# Altium integrated library FPGA Generic.IntLib: 1651 symbols (part 11 of 20)
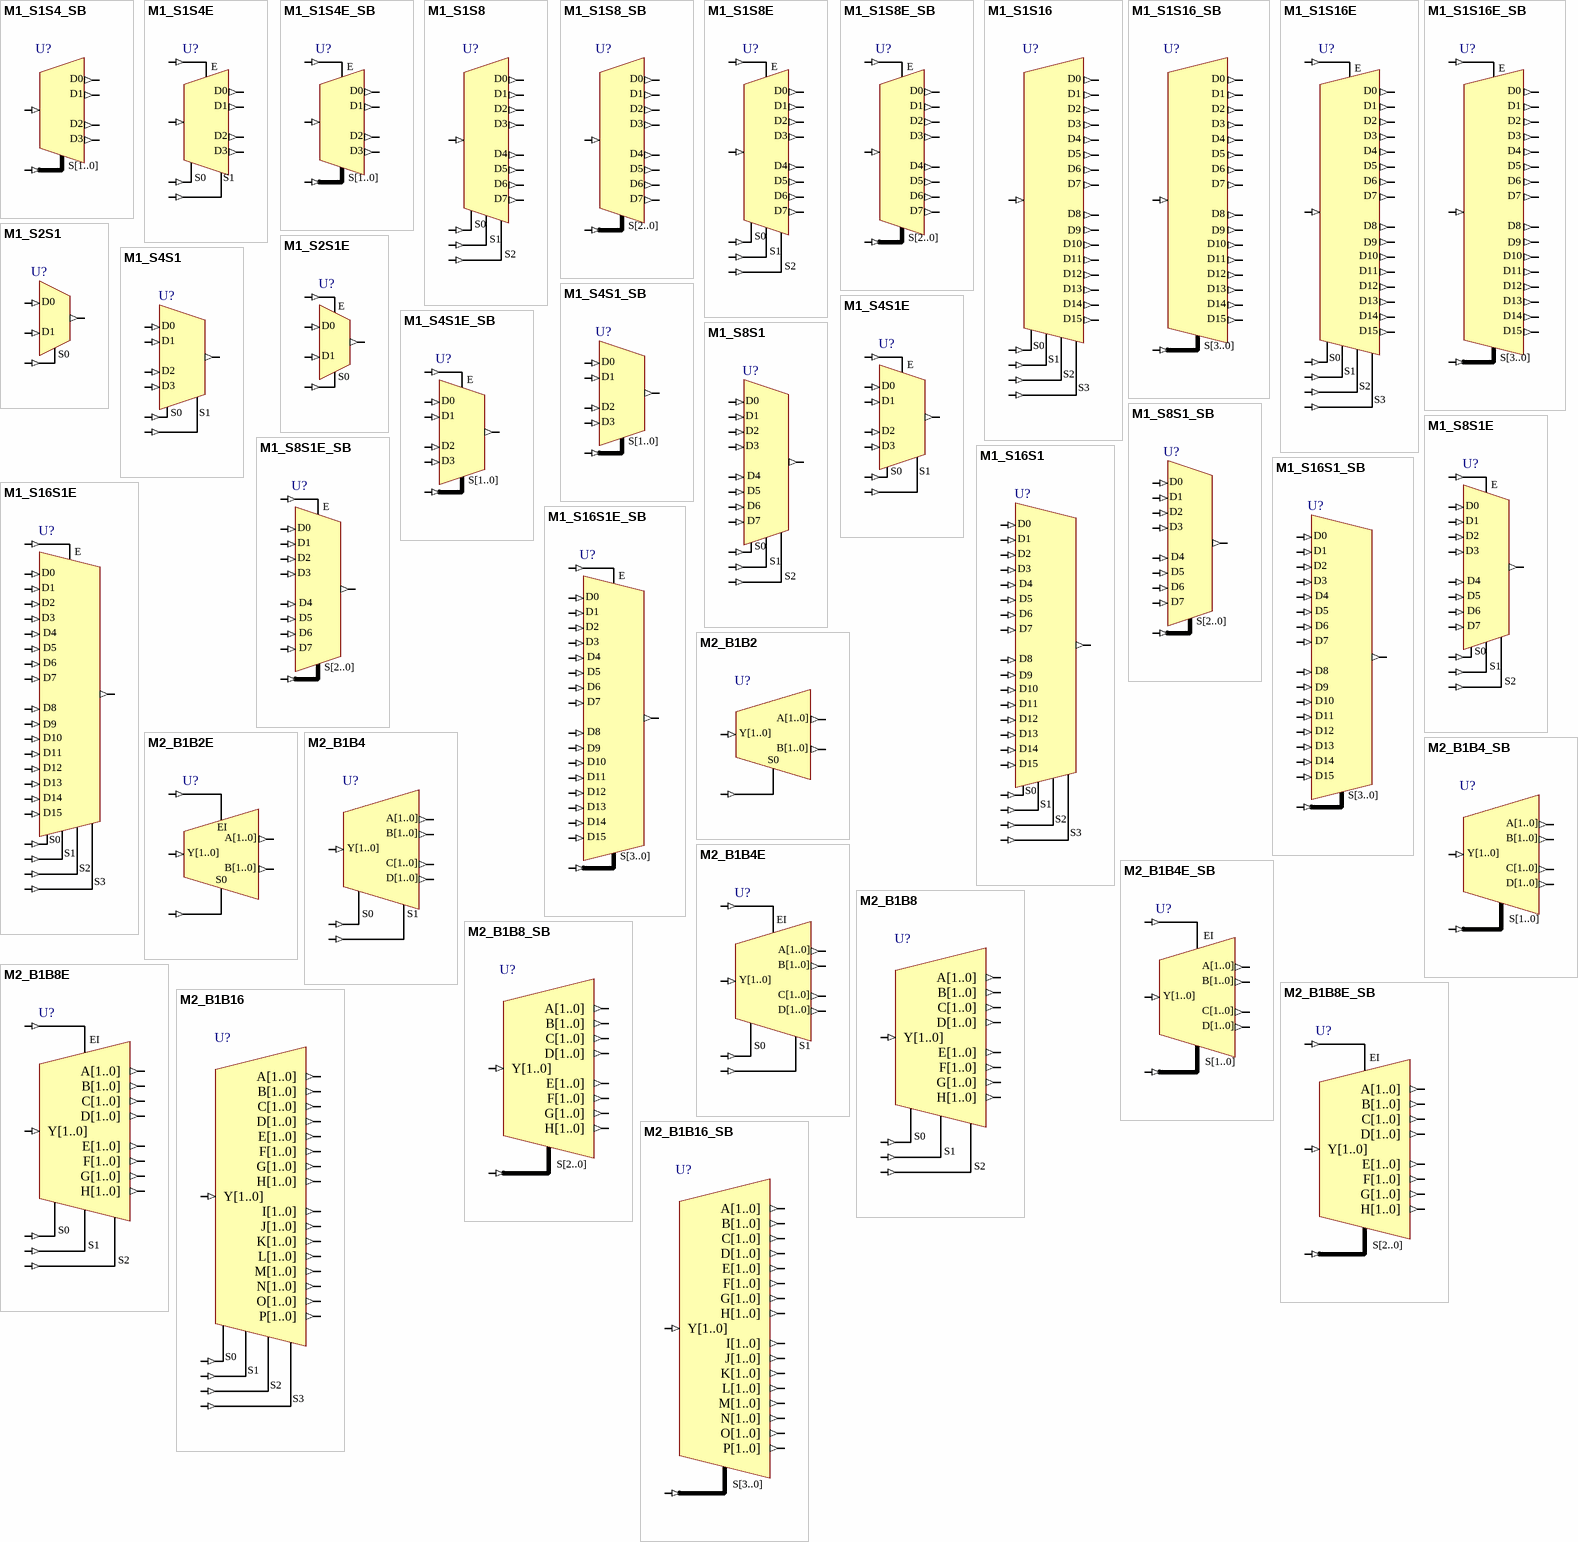
[diagram p53: symbols M1_S1S4_SB to M2_B1B16_SB]

## M1_S16S1_SB
designator U?
16x1-Single Wire to 1x1-Single Wire Multiplexer With Bus Version Select; SubClass: SnS1; BusBusSelect: True; PortSize: 1; PortStyle: Single Pin Version; ArchiveName: GENERIC; VHDLIB_SIM: GENERIC_LIB; Published: 29-Jan-2004; Publisher: Altium Limited; LastRevisionNo: 1.00.00; HelpURL: CR0118 FPGA Generic Library Guide.pdf#page=388; ComponentLink1URL: CR0137 FPGA Multiplexer Resource Usage.pdf#page=61; ComponentLink1Description: Core &Resource Usage; FunctionalClass: Multiplexer
pins: D0 (in), D1 (in), D2 (in), D3 (in), D4 (in), D5 (in), D6 (in), D7 (in), D8 (in), D9 (in), D10 (in), D11 (in), D12 (in), D13 (in), D14 (in), D15 (in), O (out), S[3..0] (in)

## M1_S16S1E
designator U?
16x1-Single Wire to 1x1-Single Wire Multiplexer With Enable; XilinxEquivalent: M16_1E; SubClass: SnS1; Enable: High; PortSize: 1; PortStyle: Single Pin Version; ArchiveName: GENERIC; VHDLIB_SIM: GENERIC_LIB; Published: 29-Jan-2004; Publisher: Altium Limited; LastRevisionNo: 1.00.00; HelpURL: CR0118 FPGA Generic Library Guide.pdf#page=393; ComponentLink1URL: CR0137 FPGA Multiplexer Resource Usage.pdf#page=62; ComponentLink1Description: Core &Resource Usage; FunctionalClass: Multiplexer
pins: D0 (in), D1 (in), D2 (in), D3 (in), D4 (in), D5 (in), D6 (in), D7 (in), D8 (in), D9 (in), D10 (in), D11 (in), D12 (in), D13 (in), D14 (in), D15 (in), E (in), O (out), S0 (in), S1 (in), S2 (in), S3 (in)

## M1_S16S1E_SB
designator U?
16x1-Single Wire to 1x1-Single Wire Multiplexer With Enable and Bus Version Select; SubClass: S1Bn; Enable: High; BusBusSelect: True; PortSize: 1; ArchiveName: GENERIC; VHDLIB_SIM: GENERIC_LIB; Published: 29-Jan-2004; Publisher: Altium Limited; LastRevisionNo: 1.00.00; HelpURL: CR0118 FPGA Generic Library Guide.pdf#page=393; ComponentLink1URL: CR0137 FPGA Multiplexer Resource Usage.pdf#page=63; ComponentLink1Description: Core &Resource Usage; FunctionalClass: Multiplexer; PortStyle: Bus Version
pins: D0 (in), D1 (in), D2 (in), D3 (in), D4 (in), D5 (in), D6 (in), D7 (in), D8 (in), D9 (in), D10 (in), D11 (in), D12 (in), D13 (in), D14 (in), D15 (in), E (in), O (out), S[3..0] (in)

## M2_B1B2
designator U?
1x2-Bit Bus to 2x2-Bit Bus Multiplexer (Demultiplex); SubClass: B1Bn; PortSize: 2; PortStyle: Bus Version; ArchiveName: GENERIC; VHDLIB_SIM: GENERIC_LIB; Published: 29-Jan-2004; Publisher: Altium Limited; LastRevisionNo: 1.00.00; HelpURL: CR0118 FPGA Generic Library Guide.pdf#page=328; ComponentLink1URL: CR0137 FPGA Multiplexer Resource Usage.pdf#page=64; ComponentLink1Description: Core &Resource Usage; FunctionalClass: Multiplexer
pins: A[1..0] (out), B[1..0] (out), S0 (in), Y[1..0] (in)

## M2_B1B2E
designator U?
1x2-Bit Bus to 2x2-Bit Bus Multiplexer (Demultiplex) With Enable; SubClass: B1Bn; Enable: High; PortSize: 2; PortStyle: Bus Version; ArchiveName: GENERIC; VHDLIB_SIM: GENERIC_LIB; Published: 29-Jan-2004; Publisher: Altium Limited; LastRevisionNo: 1.00.00; HelpURL: CR0118 FPGA Generic Library Guide.pdf#page=331; ComponentLink1URL: CR0137 FPGA Multiplexer Resource Usage.pdf#page=65; ComponentLink1Description: Core &Resource Usage; FunctionalClass: Multiplexer
pins: A[1..0] (out), B[1..0] (out), EI (in), S0 (in), Y[1..0] (in)

## M2_B1B4
designator U?
1x2-Bit Bus to 4x2-Bit Bus Multiplexer (Demultiplex); SubClass: B1Bn; PortSize: 2; PortStyle: Bus Version; ArchiveName: GENERIC; VHDLIB_SIM: GENERIC_LIB; Published: 29-Jan-2004; Publisher: Altium Limited; LastRevisionNo: 1.00.00; HelpURL: CR0118 FPGA Generic Library Guide.pdf#page=335; ComponentLink1URL: CR0137 FPGA Multiplexer Resource Usage.pdf#page=66; ComponentLink1Description: Core &Resource Usage; FunctionalClass: Multiplexer
pins: A[1..0] (out), B[1..0] (out), C[1..0] (out), D[1..0] (out), S0 (in), S1 (in), Y[1..0] (in)

## M2_B1B4_SB
designator U?
1x2-Bit Bus to 4x2-Bit Bus Multiplexer (Demultiplex) With Bus Version Select; SubClass: B1Bn; BusBusSelect: True; PortSize: 2; ArchiveName: GENERIC; VHDLIB_SIM: GENERIC_LIB; Published: 31-May-2004; Publisher: Altium Limited; LastRevisionNo: 1.00.00; HelpURL: CR0118 FPGA Generic Library Guide.pdf#page=335; ComponentLink1URL: CR0137 FPGA Multiplexer Resource Usage.pdf#page=67; ComponentLink1Description: Core &Resource Usage; FunctionalClass: Multiplexer; PortStyle: Bus Version
pins: A[1..0] (out), B[1..0] (out), C[1..0] (out), D[1..0] (out), S[1..0] (in), Y[1..0] (in)

## M2_B1B4E
designator U?
1x2-Bit Bus to 4x2-Bit Bus Multiplexer (Demultiplex) With Enable; SubClass: B1Bn; Enable: High; PortSize: 2; PortStyle: Bus Version; ArchiveName: GENERIC; VHDLIB_SIM: GENERIC_LIB; Published: 29-Jan-2004; Publisher: Altium Limited; LastRevisionNo: 1.00.00; HelpURL: CR0118 FPGA Generic Library Guide.pdf#page=339; ComponentLink1URL: CR0137 FPGA Multiplexer Resource Usage.pdf#page=68; ComponentLink1Description: Core &Resource Usage; FunctionalClass: Multiplexer
pins: A[1..0] (out), B[1..0] (out), C[1..0] (out), D[1..0] (out), EI (in), S0 (in), S1 (in), Y[1..0] (in)

## M2_B1B4E_SB
designator U?
1x2-Bit Bus to 4x2-Bit Bus Multiplexer (Demultiplex) With Enable With Bus Version Select; SubClass: B1Bn; Enable: High; BusBusSelect: True; PortSize: 2; ArchiveName: GENERIC; VHDLIB_SIM: GENERIC_LIB; Published: 31-May-2004; Publisher: Altium Limited; LastRevisionNo: 1.00.00; HelpURL: CR0118 FPGA Generic Library Guide.pdf#page=339; ComponentLink1URL: CR0137 FPGA Multiplexer Resource Usage.pdf#page=69; ComponentLink1Description: Core &Resource Usage; FunctionalClass: Multiplexer; PortStyle: Bus Version
pins: A[1..0] (out), B[1..0] (out), C[1..0] (out), D[1..0] (out), EI (in), S[1..0] (in), Y[1..0] (in)

## M2_B1B8
designator U?
1x2-Bit Bus to 8x2-Bit Bus Multiplexer (Demultiplex); SubClass: B1Bn; PortSize: 2; PortStyle: Bus Version; ArchiveName: GENERIC; VHDLIB_SIM: GENERIC_LIB; Published: 29-Jan-2004; Publisher: Altium Limited; LastRevisionNo: 1.00.00; HelpURL: CR0118 FPGA Generic Library Guide.pdf#page=345; ComponentLink1URL: CR0137 FPGA Multiplexer Resource Usage.pdf#page=70; ComponentLink1Description: Core &Resource Usage; FunctionalClass: Multiplexer
pins: A[1..0] (out), B[1..0] (out), C[1..0] (out), D[1..0] (out), E[1..0] (out), F[1..0] (out), G[1..0] (out), H[1..0] (out), S0 (in), S1 (in), S2 (in), Y[1..0] (in)

## M2_B1B8_SB
designator U?
1x2-Bit Bus to 8x2-Bit Bus Multiplexer (Demultiplex) With Bus Version Select; SubClass: B1Bn; BusBusSelect: True; PortSize: 2; ArchiveName: GENERIC; VHDLIB_SIM: GENERIC_LIB; Published: 31-May-2004; Publisher: Altium Limited; LastRevisionNo: 1.00.00; HelpURL: CR0118 FPGA Generic Library Guide.pdf#page=345; ComponentLink1URL: CR0137 FPGA Multiplexer Resource Usage.pdf#page=71; ComponentLink1Description: Core &Resource Usage; FunctionalClass: Multiplexer; PortStyle: Bus Version
pins: A[1..0] (out), B[1..0] (out), C[1..0] (out), D[1..0] (out), E[1..0] (out), F[1..0] (out), G[1..0] (out), H[1..0] (out), S[2..0] (in), Y[1..0] (in)

## M2_B1B8E
designator U?
1x2-Bit Bus to 8x2-Bit Bus Multiplexer (Demultiplex) With Enable; SubClass: B1Bn; Enable: High; PortSize: 2; PortStyle: Bus Version; ArchiveName: GENERIC; VHDLIB_SIM: GENERIC_LIB; Published: 29-Jan-2004; Publisher: Altium Limited; LastRevisionNo: 1.00.00; HelpURL: CR0118 FPGA Generic Library Guide.pdf#page=350; ComponentLink1URL: CR0137 FPGA Multiplexer Resource Usage.pdf#page=72; ComponentLink1Description: Core &Resource Usage; FunctionalClass: Multiplexer
pins: A[1..0] (out), B[1..0] (out), C[1..0] (out), D[1..0] (out), E[1..0] (out), EI (in), F[1..0] (out), G[1..0] (out), H[1..0] (out), S0 (in), S1 (in), S2 (in), Y[1..0] (in)

## M2_B1B8E_SB
designator U?
1x2-Bit Bus to 8x2-Bit Bus Multiplexer (Demultiplex) With Enable With Bus Version Select; SubClass: B1Bn; Enable: High; BusBusSelect: True; PortSize: 2; ArchiveName: GENERIC; VHDLIB_SIM: GENERIC_LIB; Published: 31-May-2004; Publisher: Altium Limited; LastRevisionNo: 1.00.00; HelpURL: CR0118 FPGA Generic Library Guide.pdf#page=350; ComponentLink1URL: CR0137 FPGA Multiplexer Resource Usage.pdf#page=73; ComponentLink1Description: Core &Resource Usage; FunctionalClass: Multiplexer; PortStyle: Bus Version
pins: A[1..0] (out), B[1..0] (out), C[1..0] (out), D[1..0] (out), E[1..0] (out), EI (in), F[1..0] (out), G[1..0] (out), H[1..0] (out), S[2..0] (in), Y[1..0] (in)

## M2_B1B16
designator U?
1x2-Bit Bus to 16x2-Bit Bus Multiplexer (Demultiplex); SubClass: B1Bn; PortSize: 2; PortStyle: Bus Version; ArchiveName: GENERIC; VHDLIB_SIM: GENERIC_LIB; Published: 29-Jan-2004; Publisher: Altium Limited; LastRevisionNo: 1.00.00; HelpURL: CR0118 FPGA Generic Library Guide.pdf#page=355; ComponentLink1URL: CR0137 FPGA Multiplexer Resource Usage.pdf#page=74; ComponentLink1Description: Core &Resource Usage; FunctionalClass: Multiplexer
pins: A[1..0] (out), B[1..0] (out), C[1..0] (out), D[1..0] (out), E[1..0] (out), F[1..0] (out), G[1..0] (out), H[1..0] (out), I[1..0] (out), J[1..0] (out), K[1..0] (out), L[1..0] (out), M[1..0] (out), N[1..0] (out), O[1..0] (out), P[1..0] (out), S0 (in), S1 (in), S2 (in), S3 (in), Y[1..0] (in)

## M2_B1B16_SB
designator U?
1x2-Bit Bus to 16x2-Bit Bus Multiplexer (Demultiplex) With Bus Version Select; SubClass: B1Bn; BusBusSelect: True; PortSize: 2; ArchiveName: GENERIC; VHDLIB_SIM: GENERIC_LIB; Published: 29-Jan-2004; Publisher: Altium Limited; LastRevisionNo: 1.00.00; HelpURL: CR0118 FPGA Generic Library Guide.pdf#page=355; ComponentLink1URL: CR0137 FPGA Multiplexer Resource Usage.pdf#page=75; ComponentLink1Description: Core &Resource Usage; FunctionalClass: Multiplexer; PortStyle: Bus Version
pins: A[1..0] (out), B[1..0] (out), C[1..0] (out), D[1..0] (out), E[1..0] (out), F[1..0] (out), G[1..0] (out), H[1..0] (out), I[1..0] (out), J[1..0] (out), K[1..0] (out), L[1..0] (out), M[1..0] (out), N[1..0] (out), O[1..0] (out), P[1..0] (out), S[3..0] (in), Y[1..0] (in)

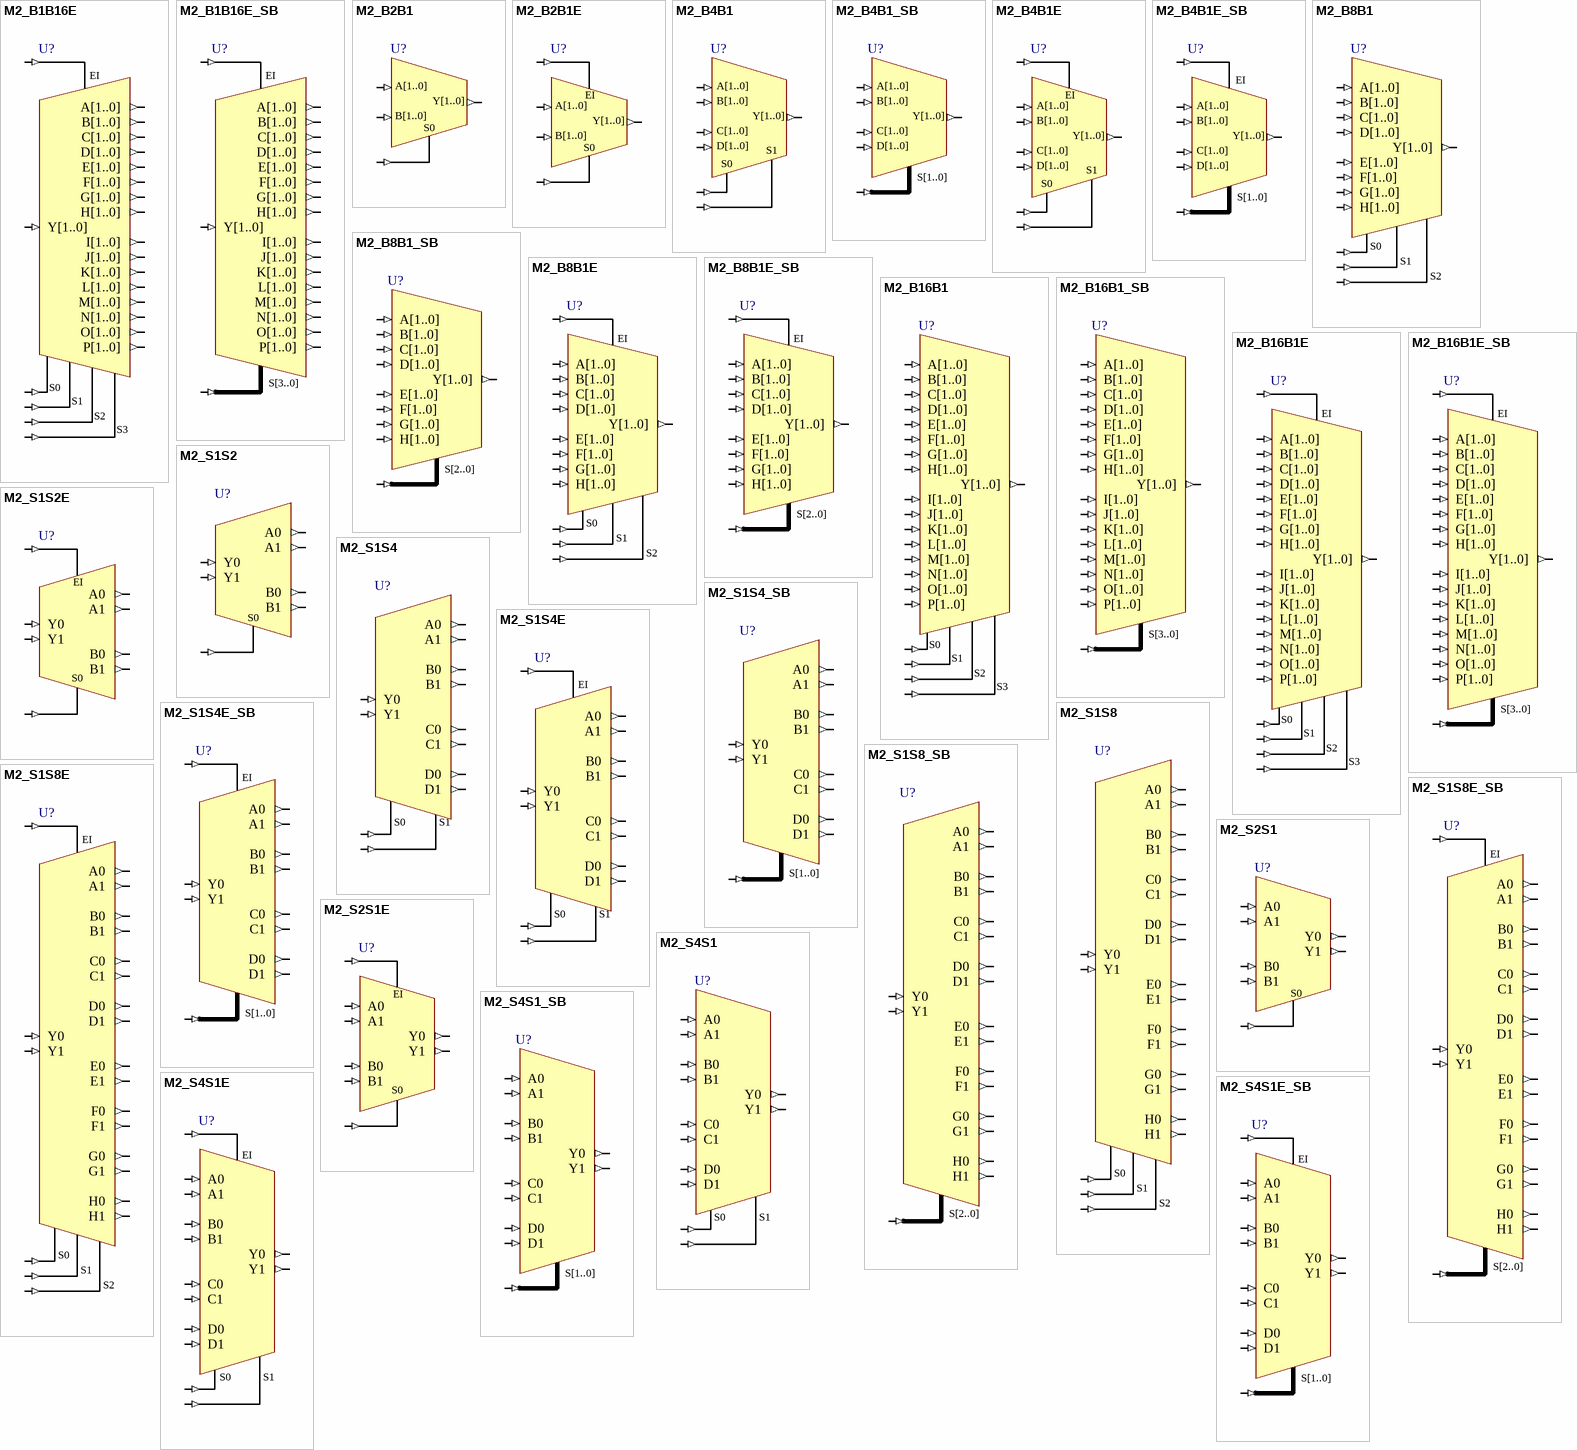
[diagram p22: symbols M2_B1B16E to M2_S4S1E_SB]

## M2_B1B16E
designator U?
1x2-Bit Bus to 16x2-Bit Bus Multiplexer (Demultiplex) With Enable; SubClass: B1Bn; Enable: High; PortSize: 2; PortStyle: Bus Version; ArchiveName: GENERIC; VHDLIB_SIM: GENERIC_LIB; Published: 29-Jan-2004; Publisher: Altium Limited; LastRevisionNo: 1.00.00; HelpURL: CR0118 FPGA Generic Library Guide.pdf#page=360; ComponentLink1URL: CR0137 FPGA Multiplexer Resource Usage.pdf#page=76; ComponentLink1Description: Core &Resource Usage; FunctionalClass: Multiplexer
pins: A[1..0] (out), B[1..0] (out), C[1..0] (out), D[1..0] (out), E[1..0] (out), EI (in), F[1..0] (out), G[1..0] (out), H[1..0] (out), I[1..0] (out), J[1..0] (out), K[1..0] (out), L[1..0] (out), M[1..0] (out), N[1..0] (out), O[1..0] (out), P[1..0] (out), S0 (in), S1 (in), S2 (in), S3 (in), Y[1..0] (in)

## M2_B1B16E_SB
designator U?
1x2-Bit Bus to 16x2-Bit Bus Multiplexer (Demultiplex) With Enable and Bus Version Select; SubClass: B1Bn; Enable: High; BusBusSelect: True; PortSize: 2; ArchiveName: GENERIC; VHDLIB_SIM: GENERIC_LIB; Published: 29-Jan-2004; Publisher: Altium Limited; LastRevisionNo: 1.00.00; HelpURL: CR0118 FPGA Generic Library Guide.pdf#page=360; ComponentLink1URL: CR0137 FPGA Multiplexer Resource Usage.pdf#page=77; ComponentLink1Description: Core &Resource Usage; FunctionalClass: Multiplexer; PortStyle: Bus Version
pins: A[1..0] (out), B[1..0] (out), C[1..0] (out), D[1..0] (out), E[1..0] (out), EI (in), F[1..0] (out), G[1..0] (out), H[1..0] (out), I[1..0] (out), J[1..0] (out), K[1..0] (out), L[1..0] (out), M[1..0] (out), N[1..0] (out), O[1..0] (out), P[1..0] (out), S[3..0] (in), Y[1..0] (in)

## M2_B2B1
designator U?
2x2-Bit Bus to 1x2-Bit Bus Multiplexer; SubClass: BnB1; PortSize: 2; ArchiveName: GENERIC; VHDLIB_SIM: GENERIC_LIB; Published: 29-Jan-2004; Publisher: Altium Limited; LastRevisionNo: 1.00.00; HelpURL: CR0118 FPGA Generic Library Guide.pdf#page=364; ComponentLink1URL: CR0137 FPGA Multiplexer Resource Usage.pdf#page=78; ComponentLink1Description: Core &Resource Usage; FunctionalClass: Multiplexer
pins: A[1..0] (in), B[1..0] (in), S0 (in), Y[1..0] (out)

## M2_B2B1E
designator U?
2x2-Bit Bus to 1x2-Bit Bus Multiplexer With Enable; SubClass: BnB1; Enable: High; PortSize: 2; ArchiveName: GENERIC; VHDLIB_SIM: GENERIC_LIB; Published: 29-Jan-2004; Publisher: Altium Limited; LastRevisionNo: 1.00.00; HelpURL: CR0118 FPGA Generic Library Guide.pdf#page=366; ComponentLink1URL: CR0137 FPGA Multiplexer Resource Usage.pdf#page=79; ComponentLink1Description: Core &Resource Usage; FunctionalClass: Multiplexer
pins: A[1..0] (in), B[1..0] (in), EI (in), S0 (in), Y[1..0] (out)

## M2_B4B1
designator U?
4x2-Bit Bus to 1x2-Bit Bus Multiplexer; SubClass: BnB1; PortSize: 2; ArchiveName: GENERIC; VHDLIB_SIM: GENERIC_LIB; Published: 29-Jan-2004; Publisher: Altium Limited; LastRevisionNo: 1.00.00; HelpURL: CR0118 FPGA Generic Library Guide.pdf#page=370; ComponentLink1URL: CR0137 FPGA Multiplexer Resource Usage.pdf#page=80; ComponentLink1Description: Core &Resource Usage; FunctionalClass: Multiplexer
pins: A[1..0] (in), B[1..0] (in), C[1..0] (in), D[1..0] (in), S0 (in), S1 (in), Y[1..0] (out)

## M2_B4B1_SB
designator U?
4x2-Bit Bus to 1x2-Bit Bus Multiplexer With Bus Version Select; SubClass: BnB1; BusBusSelect: True; PortSize: 2; ArchiveName: GENERIC; VHDLIB_SIM: GENERIC_LIB; Published: 31-May-2004; Publisher: Altium Limited; LastRevisionNo: 1.00.00; HelpURL: CR0118 FPGA Generic Library Guide.pdf#page=370; ComponentLink1URL: CR0137 FPGA Multiplexer Resource Usage.pdf#page=81; ComponentLink1Description: Core &Resource Usage; FunctionalClass: Multiplexer
pins: A[1..0] (in), B[1..0] (in), C[1..0] (in), D[1..0] (in), S[1..0] (in), Y[1..0] (out)

## M2_B4B1E
designator U?
4x2-Bit Bus to 1x2-Bit Bus Multiplexer With Enable; SubClass: BnB1; Enable: High; PortSize: 2; ArchiveName: GENERIC; VHDLIB_SIM: GENERIC_LIB; Published: 29-Jan-2004; Publisher: Altium Limited; LastRevisionNo: 1.00.00; HelpURL: CR0118 FPGA Generic Library Guide.pdf#page=374; ComponentLink1URL: CR0137 FPGA Multiplexer Resource Usage.pdf#page=82; ComponentLink1Description: Core &Resource Usage; FunctionalClass: Multiplexer
pins: A[1..0] (in), B[1..0] (in), C[1..0] (in), D[1..0] (in), EI (in), S0 (in), S1 (in), Y[1..0] (out)

## M2_B4B1E_SB
designator U?
4x2-Bit Bus to 1x2-Bit Bus Multiplexer With Enable With Bus Version Select; SubClass: BnB1; Enable: High; BusBusSelect: True; PortSize: 2; ArchiveName: GENERIC; VHDLIB_SIM: GENERIC_LIB; Published: 31-May-2004; Publisher: Altium Limited; LastRevisionNo: 1.00.00; HelpURL: CR0118 FPGA Generic Library Guide.pdf#page=374; ComponentLink1URL: CR0137 FPGA Multiplexer Resource Usage.pdf#page=83; ComponentLink1Description: Core &Resource Usage; FunctionalClass: Multiplexer
pins: A[1..0] (in), B[1..0] (in), C[1..0] (in), D[1..0] (in), EI (in), S[1..0] (in), Y[1..0] (out)

## M2_B8B1
designator U?
8x2-Bit Bus to 1x2-Bit Bus Multiplexer; SubClass: BnB1; PortSize: 2; ArchiveName: GENERIC; VHDLIB_SIM: GENERIC_LIB; Published: 29-Jan-2004; Publisher: Altium Limited; LastRevisionNo: 1.00.00; HelpURL: CR0118 FPGA Generic Library Guide.pdf#page=379; ComponentLink1URL: CR0137 FPGA Multiplexer Resource Usage.pdf#page=84; ComponentLink1Description: Core &Resource Usage; FunctionalClass: Multiplexer
pins: A[1..0] (in), B[1..0] (in), C[1..0] (in), D[1..0] (in), E[1..0] (in), F[1..0] (in), G[1..0] (in), H[1..0] (in), S0 (in), S1 (in), S2 (in), Y[1..0] (out)

## M2_B8B1_SB
designator U?
8x2-Bit Bus to 1x2-Bit Bus Multiplexer With Bus Version Select; SubClass: BnB1; BusBusSelect: True; PortSize: 2; ArchiveName: GENERIC; VHDLIB_SIM: GENERIC_LIB; Published: 31-May-2004; Publisher: Altium Limited; LastRevisionNo: 1.00.00; HelpURL: CR0118 FPGA Generic Library Guide.pdf#page=379; ComponentLink1URL: CR0137 FPGA Multiplexer Resource Usage.pdf#page=85; ComponentLink1Description: Core &Resource Usage; FunctionalClass: Multiplexer
pins: A[1..0] (in), B[1..0] (in), C[1..0] (in), D[1..0] (in), E[1..0] (in), F[1..0] (in), G[1..0] (in), H[1..0] (in), S[2..0] (in), Y[1..0] (out)

## M2_B8B1E
designator U?
8x2-Bit Bus to 1x2-Bit Bus Multiplexer With Enable; SubClass: BnB1; Enable: High; PortSize: 2; ArchiveName: GENERIC; VHDLIB_SIM: GENERIC_LIB; Published: 29-Jan-2004; Publisher: Altium Limited; LastRevisionNo: 1.00.00; HelpURL: CR0118 FPGA Generic Library Guide.pdf#page=383; ComponentLink1URL: CR0137 FPGA Multiplexer Resource Usage.pdf#page=86; ComponentLink1Description: Core &Resource Usage; FunctionalClass: Multiplexer
pins: A[1..0] (in), B[1..0] (in), C[1..0] (in), D[1..0] (in), E[1..0] (in), EI (in), F[1..0] (in), G[1..0] (in), H[1..0] (in), S0 (in), S1 (in), S2 (in), Y[1..0] (out)

## M2_B8B1E_SB
designator U?
8x2-Bit Bus to 1x2-Bit Bus Multiplexer With Enable With Bus Version Select; SubClass: BnB1; Enable: High; BusBusSelect: True; PortSize: 2; ArchiveName: GENERIC; VHDLIB_SIM: GENERIC_LIB; Published: 31-May-2004; Publisher: Altium Limited; LastRevisionNo: 1.00.00; HelpURL: CR0118 FPGA Generic Library Guide.pdf#page=383; ComponentLink1URL: CR0137 FPGA Multiplexer Resource Usage.pdf#page=87; ComponentLink1Description: Core &Resource Usage; FunctionalClass: Multiplexer
pins: A[1..0] (in), B[1..0] (in), C[1..0] (in), D[1..0] (in), E[1..0] (in), EI (in), F[1..0] (in), G[1..0] (in), H[1..0] (in), S[2..0] (in), Y[1..0] (out)

## M2_B16B1
designator U?
16x2-Bit Bus to 1x2-Bit Bus Multiplexer; SubClass: BnB1; PortSize: 2; ArchiveName: GENERIC; VHDLIB_SIM: GENERIC_LIB; Published: 29-Jan-2004; Publisher: Altium Limited; LastRevisionNo: 1.00.00; HelpURL: CR0118 FPGA Generic Library Guide.pdf#page=388; ComponentLink1URL: CR0137 FPGA Multiplexer Resource Usage.pdf#page=88; ComponentLink1Description: Core &Resource Usage; FunctionalClass: Multiplexer
pins: A[1..0] (in), B[1..0] (in), C[1..0] (in), D[1..0] (in), E[1..0] (in), F[1..0] (in), G[1..0] (in), H[1..0] (in), I[1..0] (in), J[1..0] (in), K[1..0] (in), L[1..0] (in), M[1..0] (in), N[1..0] (in), O[1..0] (in), P[1..0] (in), S0 (in), S1 (in), S2 (in), S3 (in), Y[1..0] (out)

## M2_B16B1_SB
designator U?
16x2-Bit Bus to 1x2-Bit Bus Multiplexer With Bus Version Select; SubClass: BnB1; BusBusSelect: True; PortSize: 2; ArchiveName: GENERIC; VHDLIB_SIM: GENERIC_LIB; Published: 29-Jan-2004; Publisher: Altium Limited; LastRevisionNo: 1.00.00; HelpURL: CR0118 FPGA Generic Library Guide.pdf#page=388; ComponentLink1URL: CR0137 FPGA Multiplexer Resource Usage.pdf#page=89; ComponentLink1Description: Core &Resource Usage; FunctionalClass: Multiplexer
pins: A[1..0] (in), B[1..0] (in), C[1..0] (in), D[1..0] (in), E[1..0] (in), F[1..0] (in), G[1..0] (in), H[1..0] (in), I[1..0] (in), J[1..0] (in), K[1..0] (in), L[1..0] (in), M[1..0] (in), N[1..0] (in), O[1..0] (in), P[1..0] (in), S[3..0] (in), Y[1..0] (out)

## M2_B16B1E
designator U?
16x2-Bit Bus to 1x2-Bit Bus Multiplexer With Enable; SubClass: BnB1; Enable: High; PortSize: 2; ArchiveName: GENERIC; VHDLIB_SIM: GENERIC_LIB; Published: 29-Jan-2004; Publisher: Altium Limited; LastRevisionNo: 1.00.00; HelpURL: CR0118 FPGA Generic Library Guide.pdf#page=393; ComponentLink1URL: CR0137 FPGA Multiplexer Resource Usage.pdf#page=90; ComponentLink1Description: Core &Resource Usage; FunctionalClass: Multiplexer
pins: A[1..0] (in), B[1..0] (in), C[1..0] (in), D[1..0] (in), E[1..0] (in), EI (in), F[1..0] (in), G[1..0] (in), H[1..0] (in), I[1..0] (in), J[1..0] (in), K[1..0] (in), L[1..0] (in), M[1..0] (in), N[1..0] (in), O[1..0] (in), P[1..0] (in), S0 (in), S1 (in), S2 (in), S3 (in), Y[1..0] (out)

## M2_B16B1E_SB
designator U?
16x2-Bit Bus to 1x2-Bit Bus Multiplexer With Enable and Bus Version Select; SubClass: BnB1; Enable: High; BusBusSelect: True; PortSize: 2; ArchiveName: GENERIC; VHDLIB_SIM: GENERIC_LIB; Published: 29-Jan-2004; Publisher: Altium Limited; LastRevisionNo: 1.00.00; HelpURL: CR0118 FPGA Generic Library Guide.pdf#page=393; ComponentLink1URL: CR0137 FPGA Multiplexer Resource Usage.pdf#page=91; ComponentLink1Description: Core &Resource Usage; FunctionalClass: Multiplexer
pins: A[1..0] (in), B[1..0] (in), C[1..0] (in), D[1..0] (in), E[1..0] (in), EI (in), F[1..0] (in), G[1..0] (in), H[1..0] (in), I[1..0] (in), J[1..0] (in), K[1..0] (in), L[1..0] (in), M[1..0] (in), N[1..0] (in), O[1..0] (in), P[1..0] (in), S[3..0] (in), Y[1..0] (out)

## M2_S1S2
designator U?
1x2-Single Wire to 2x2-Single Wire Multiplexer (Demultiplex); SubClass: S1Sn; PortSize: 2; PortStyle: Single Pin Version; ArchiveName: GENERIC; VHDLIB_SIM: GENERIC_LIB; Published: 29-Jan-2004; Publisher: Altium Limited; LastRevisionNo: 1.00.00; HelpURL: CR0118 FPGA Generic Library Guide.pdf#page=328; ComponentLink1URL: CR0137 FPGA Multiplexer Resource Usage.pdf#page=92; ComponentLink1Description: Core &Resource Usage; FunctionalClass: Multiplexer
pins: A0 (out), A1 (out), B0 (out), B1 (out), S0 (in), Y0 (in), Y1 (in)

## M2_S1S2E
designator U?
1x2-Single Wire to 2x2-Single Wire Multiplexer (Demultiplex) With Enable; SubClass: S1Sn; Enable: High; PortSize: 2; PortStyle: Single Pin Version; ArchiveName: GENERIC; VHDLIB_SIM: GENERIC_LIB; Published: 29-Jan-2004; Publisher: Altium Limited; LastRevisionNo: 1.00.00; HelpURL: CR0118 FPGA Generic Library Guide.pdf#page=331; ComponentLink1URL: CR0137 FPGA Multiplexer Resource Usage.pdf#page=93; ComponentLink1Description: Core &Resource Usage; FunctionalClass: Multiplexer
pins: A0 (out), A1 (out), B0 (out), B1 (out), EI (in), S0 (in), Y0 (in), Y1 (in)

## M2_S1S4
designator U?
1x2-Single Wire to 4x2-Single Wire Multiplexer (Demultiplex); SubClass: S1Sn; PortSize: 2; PortStyle: Single Pin Version; ArchiveName: GENERIC; VHDLIB_SIM: GENERIC_LIB; Published: 29-Jan-2004; Publisher: Altium Limited; LastRevisionNo: 1.00.00; HelpURL: CR0118 FPGA Generic Library Guide.pdf#page=335; ComponentLink1URL: CR0137 FPGA Multiplexer Resource Usage.pdf#page=94; ComponentLink1Description: Core &Resource Usage; FunctionalClass: Multiplexer
pins: A0 (out), A1 (out), B0 (out), B1 (out), C0 (out), C1 (out), D0 (out), D1 (out), S0 (in), S1 (in), Y0 (in), Y1 (in)

## M2_S1S4_SB
designator U?
1x2-Single Wire to 4x2-Single Wire Multiplexer (Demultiplex) With Bus Version Select; SubClass: S1Sn; BusBusSelect: True; PortSize: 2; PortStyle: Single Pin Version; ArchiveName: GENERIC; VHDLIB_SIM: GENERIC_LIB; Published: 31-May-2004; Publisher: Altium Limited; LastRevisionNo: 1.00.00; HelpURL: CR0118 FPGA Generic Library Guide.pdf#page=335; ComponentLink1URL: CR0137 FPGA Multiplexer Resource Usage.pdf#page=95; ComponentLink1Description: Core &Resource Usage; FunctionalClass: Multiplexer
pins: A0 (out), A1 (out), B0 (out), B1 (out), C0 (out), C1 (out), D0 (out), D1 (out), S[1..0] (in), Y0 (in), Y1 (in)

## M2_S1S4E
designator U?
1x2-Single Wire to 4x2-Single Wire Multiplexer (Demultiplex) With Enable; SubClass: S1Sn; Enable: High; PortSize: 2; PortStyle: Single Pin Version; ArchiveName: GENERIC; VHDLIB_SIM: GENERIC_LIB; Published: 29-Jan-2004; Publisher: Altium Limited; LastRevisionNo: 1.00.00; HelpURL: CR0118 FPGA Generic Library Guide.pdf#page=339; ComponentLink1URL: CR0137 FPGA Multiplexer Resource Usage.pdf#page=96; ComponentLink1Description: Core &Resource Usage; FunctionalClass: Multiplexer
pins: A0 (out), A1 (out), B0 (out), B1 (out), C0 (out), C1 (out), D0 (out), D1 (out), EI (in), S0 (in), S1 (in), Y0 (in), Y1 (in)

## M2_S1S4E_SB
designator U?
1x2-Single Wire to 4x2-Single Wire Multiplexer (Demultiplex) With Enable With Bus Version Select; SubClass: S1Sn; Enable: High; BusBusSelect: True; PortSize: 2; PortStyle: Single Pin Version; ArchiveName: GENERIC; VHDLIB_SIM: GENERIC_LIB; Published: 31-May-2004; Publisher: Altium Limited; LastRevisionNo: 1.00.00; HelpURL: CR0118 FPGA Generic Library Guide.pdf#page=339; ComponentLink1URL: CR0137 FPGA Multiplexer Resource Usage.pdf#page=97; ComponentLink1Description: Core &Resource Usage; FunctionalClass: Multiplexer
pins: A0 (out), A1 (out), B0 (out), B1 (out), C0 (out), C1 (out), D0 (out), D1 (out), EI (in), S[1..0] (in), Y0 (in), Y1 (in)

## M2_S1S8
designator U?
1x2-Single Wire to 8x2-Single Wire Multiplexer (Demultiplex); SubClass: S1Sn; PortSize: 2; PortStyle: Single Pin Version; ArchiveName: GENERIC; VHDLIB_SIM: GENERIC_LIB; Published: 29-Jan-2004; Publisher: Altium Limited; LastRevisionNo: 1.00.00; HelpURL: CR0118 FPGA Generic Library Guide.pdf#page=345; ComponentLink1URL: CR0137 FPGA Multiplexer Resource Usage.pdf#page=98; ComponentLink1Description: Core &Resource Usage; FunctionalClass: Multiplexer
pins: A0 (out), A1 (out), B0 (out), B1 (out), C0 (out), C1 (out), D0 (out), D1 (out), E0 (out), E1 (out), F0 (out), F1 (out), G0 (out), G1 (out), H0 (out), H1 (out), S0 (in), S1 (in), S2 (in), Y0 (in), Y1 (in)

## M2_S1S8_SB
designator U?
1x2-Single Wire to 8x2-Single Wire Multiplexer (Demultiplex) With Bus Version Select; SubClass: S1Sn; BusBusSelect: True; PortSize: 2; PortStyle: Single Pin Version; ArchiveName: GENERIC; VHDLIB_SIM: GENERIC_LIB; Published: 31-May-2004; Publisher: Altium Limited; LastRevisionNo: 1.00.00; HelpURL: CR0118 FPGA Generic Library Guide.pdf#page=345; ComponentLink1URL: CR0137 FPGA Multiplexer Resource Usage.pdf#page=99; ComponentLink1Description: Core &Resource Usage; FunctionalClass: Multiplexer
pins: A0 (out), A1 (out), B0 (out), B1 (out), C0 (out), C1 (out), D0 (out), D1 (out), E0 (out), E1 (out), F0 (out), F1 (out), G0 (out), G1 (out), H0 (out), H1 (out), S[2..0] (in), Y0 (in), Y1 (in)

## M2_S1S8E
designator U?
1x2-Single Wire to 8x2-Single Wire Multiplexer (Demultiplex) With Enable; SubClass: S1Sn; Enable: High; PortSize: 2; PortStyle: Single Pin Version; ArchiveName: GENERIC; VHDLIB_SIM: GENERIC_LIB; Published: 29-Jan-2004; Publisher: Altium Limited; LastRevisionNo: 1.00.00; HelpURL: CR0118 FPGA Generic Library Guide.pdf#page=350; ComponentLink1URL: CR0137 FPGA Multiplexer Resource Usage.pdf#page=100; ComponentLink1Description: Core &Resource Usage; FunctionalClass: Multiplexer
pins: A0 (out), A1 (out), B0 (out), B1 (out), C0 (out), C1 (out), D0 (out), D1 (out), E0 (out), E1 (out), EI (in), F0 (out), F1 (out), G0 (out), G1 (out), H0 (out), H1 (out), S0 (in), S1 (in), S2 (in), Y0 (in), Y1 (in)

## M2_S1S8E_SB
designator U?
1x2-Single Wire to 8x2-Single Wire Multiplexer (Demultiplex) With Enable With Bus Version Select; SubClass: S1Sn; Enable: High; BusBusSelect: True; PortSize: 2; PortStyle: Single Pin Version; ArchiveName: GENERIC; VHDLIB_SIM: GENERIC_LIB; Published: 31-May-2004; Publisher: Altium Limited; LastRevisionNo: 1.00.00; HelpURL: CR0118 FPGA Generic Library Guide.pdf#page=350; ComponentLink1URL: CR0137 FPGA Multiplexer Resource Usage.pdf#page=101; ComponentLink1Description: Core &Resource Usage; FunctionalClass: Multiplexer
pins: A0 (out), A1 (out), B0 (out), B1 (out), C0 (out), C1 (out), D0 (out), D1 (out), E0 (out), E1 (out), EI (in), F0 (out), F1 (out), G0 (out), G1 (out), H0 (out), H1 (out), S[2..0] (in), Y0 (in), Y1 (in)

## M2_S2S1
designator U?
2x2-Single Wire to 1x2-Single Wire Multiplexer; SubClass: SnS1; PortSize: 2; PortStyle: Single Pin Version; ArchiveName: GENERIC; VHDLIB_SIM: GENERIC_LIB; Published: 29-Jan-2004; Publisher: Altium Limited; LastRevisionNo: 1.00.00; HelpURL: CR0118 FPGA Generic Library Guide.pdf#page=364; ComponentLink1URL: CR0137 FPGA Multiplexer Resource Usage.pdf#page=102; ComponentLink1Description: Core &Resource Usage; FunctionalClass: Multiplexer
pins: A0 (in), A1 (in), B0 (in), B1 (in), S0 (in), Y0 (out), Y1 (out)

## M2_S2S1E
designator U?
2x2-Single Wire to 1x2-Single Wire Multiplexer With Enable; SubClass: SnS1; Enable: High; PortSize: 2; PortStyle: Single Pin Version; ArchiveName: GENERIC; VHDLIB_SIM: GENERIC_LIB; Published: 29-Jan-2004; Publisher: Altium Limited; LastRevisionNo: 1.00.00; HelpURL: CR0118 FPGA Generic Library Guide.pdf#page=366; ComponentLink1URL: CR0137 FPGA Multiplexer Resource Usage.pdf#page=103; ComponentLink1Description: Core &Resource Usage; FunctionalClass: Multiplexer
pins: A0 (in), A1 (in), B0 (in), B1 (in), EI (in), S0 (in), Y0 (out), Y1 (out)

## M2_S4S1
designator U?
4x2-Single Wire to 1x2-Single Wire Multiplexer; SubClass: SnS1; PortSize: 2; PortStyle: Single Pin Version; ArchiveName: GENERIC; VHDLIB_SIM: GENERIC_LIB; Published: 29-Jan-2004; Publisher: Altium Limited; LastRevisionNo: 1.00.00; HelpURL: CR0118 FPGA Generic Library Guide.pdf#page=370; ComponentLink1URL: CR0137 FPGA Multiplexer Resource Usage.pdf#page=104; ComponentLink1Description: Core &Resource Usage; FunctionalClass: Multiplexer
pins: A0 (in), A1 (in), B0 (in), B1 (in), C0 (in), C1 (in), D0 (in), D1 (in), S0 (in), S1 (in), Y0 (out), Y1 (out)

## M2_S4S1_SB
designator U?
4x2-Single Wire to 1x2-Single Wire Multiplexer With Bus Version Select; SubClass: SnS1; BusBusSelect: True; PortSize: 2; PortStyle: Single Pin Version; ArchiveName: GENERIC; VHDLIB_SIM: GENERIC_LIB; Published: 31-May-2004; Publisher: Altium Limited; LastRevisionNo: 1.00.00; HelpURL: CR0118 FPGA Generic Library Guide.pdf#page=370; ComponentLink1URL: CR0137 FPGA Multiplexer Resource Usage.pdf#page=105; ComponentLink1Description: Core &Resource Usage; FunctionalClass: Multiplexer
pins: A0 (in), A1 (in), B0 (in), B1 (in), C0 (in), C1 (in), D0 (in), D1 (in), S[1..0] (in), Y0 (out), Y1 (out)

## M2_S4S1E
designator U?
4x2-Single Wire to 1x2-Single Wire Multiplexer With Enable; SubClass: SnS1; Enable: High; PortSize: 2; PortStyle: Single Pin Version; ArchiveName: GENERIC; VHDLIB_SIM: GENERIC_LIB; Published: 29-Jan-2004; Publisher: Altium Limited; LastRevisionNo: 1.00.00; HelpURL: CR0118 FPGA Generic Library Guide.pdf#page=374; ComponentLink1URL: CR0137 FPGA Multiplexer Resource Usage.pdf#page=106; ComponentLink1Description: Core &Resource Usage; FunctionalClass: Multiplexer
pins: A0 (in), A1 (in), B0 (in), B1 (in), C0 (in), C1 (in), D0 (in), D1 (in), EI (in), S0 (in), S1 (in), Y0 (out), Y1 (out)

## M2_S4S1E_SB
designator U?
4x2-Single Wire to 1x2-Single Wire Multiplexer With Enable With Bus Version Select; SubClass: SnS1; Enable: High; BusBusSelect: True; PortSize: 2; PortStyle: Single Pin Version; ArchiveName: GENERIC; VHDLIB_SIM: GENERIC_LIB; Published: 31-May-2004; Publisher: Altium Limited; LastRevisionNo: 1.00.00; HelpURL: CR0118 FPGA Generic Library Guide.pdf#page=374; ComponentLink1URL: CR0137 FPGA Multiplexer Resource Usage.pdf#page=107; ComponentLink1Description: Core &Resource Usage; FunctionalClass: Multiplexer
pins: A0 (in), A1 (in), B0 (in), B1 (in), C0 (in), C1 (in), D0 (in), D1 (in), EI (in), S[1..0] (in), Y0 (out), Y1 (out)

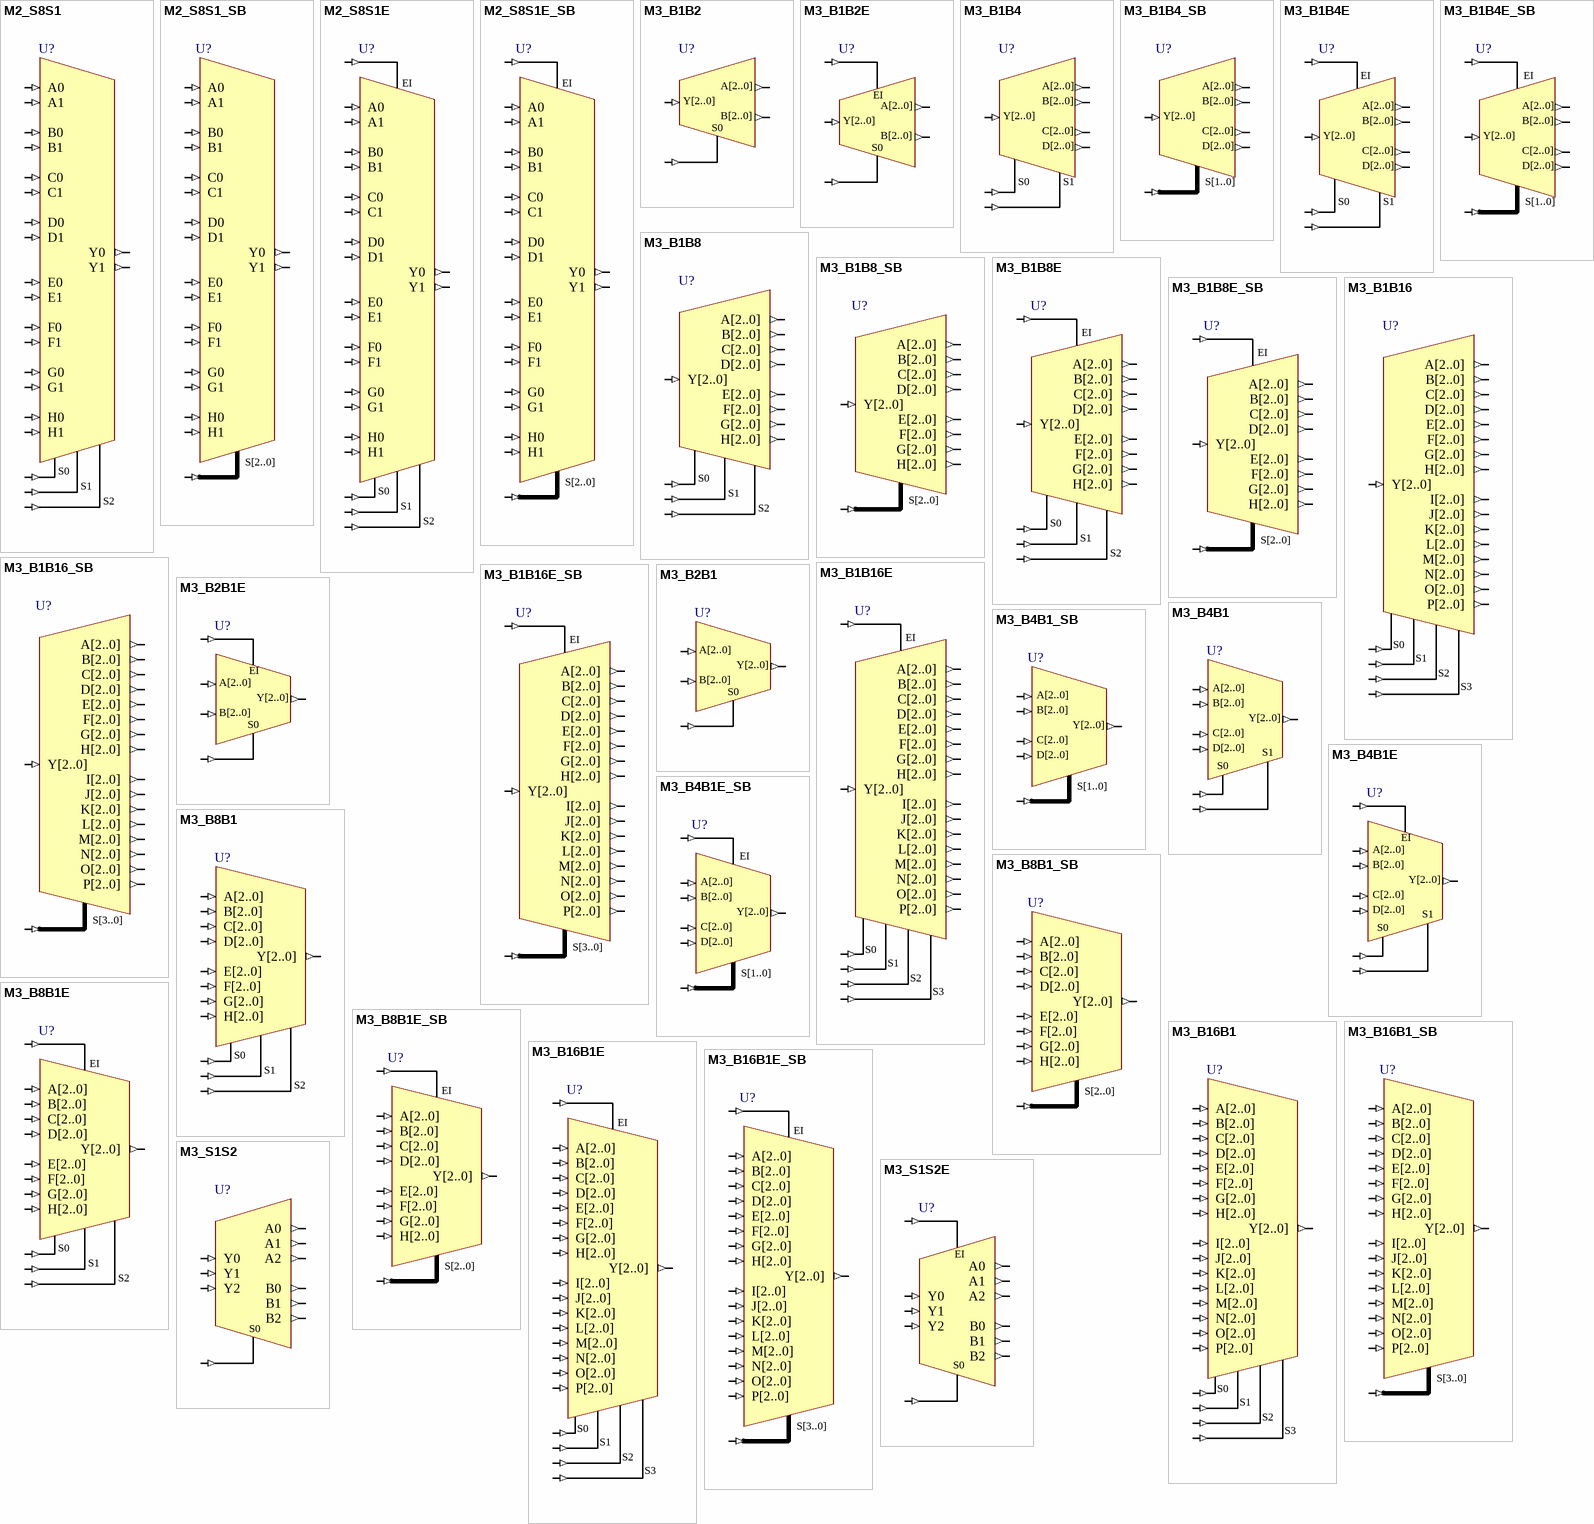
[diagram p23: symbols M2_S8S1 to M3_S1S2E]

## M2_S8S1
designator U?
8x2-Single Wire to 1x2-Single Wire Multiplexer; SubClass: SnS1; PortSize: 2; PortStyle: Single Pin Version; ArchiveName: GENERIC; VHDLIB_SIM: GENERIC_LIB; Published: 29-Jan-2004; Publisher: Altium Limited; LastRevisionNo: 1.00.00; HelpURL: CR0118 FPGA Generic Library Guide.pdf#page=379; ComponentLink1URL: CR0137 FPGA Multiplexer Resource Usage.pdf#page=108; ComponentLink1Description: Core &Resource Usage; FunctionalClass: Multiplexer
pins: A0 (in), A1 (in), B0 (in), B1 (in), C0 (in), C1 (in), D0 (in), D1 (in), E0 (in), E1 (in), F0 (in), F1 (in), G0 (in), G1 (in), H0 (in), H1 (in), S0 (in), S1 (in), S2 (in), Y0 (out), Y1 (out)

## M2_S8S1_SB
designator U?
8x2-Single Wire to 1x2-Single Wire Multiplexer With Bus Version Select; SubClass: SnS1; BusBusSelect: True; PortSize: 2; PortStyle: Single Pin Version; ArchiveName: GENERIC; VHDLIB_SIM: GENERIC_LIB; Published: 31-May-2004; Publisher: Altium Limited; LastRevisionNo: 1.00.00; HelpURL: CR0118 FPGA Generic Library Guide.pdf#page=379; ComponentLink1URL: CR0137 FPGA Multiplexer Resource Usage.pdf#page=109; ComponentLink1Description: Core &Resource Usage; FunctionalClass: Multiplexer
pins: A0 (in), A1 (in), B0 (in), B1 (in), C0 (in), C1 (in), D0 (in), D1 (in), E0 (in), E1 (in), F0 (in), F1 (in), G0 (in), G1 (in), H0 (in), H1 (in), S[2..0] (in), Y0 (out), Y1 (out)

## M2_S8S1E
designator U?
8x2-Single Wire to 1x2-Single Wire Multiplexer With Enable; SubClass: SnS1; Enable: High; PortSize: 2; PortStyle: Single Pin Version; ArchiveName: GENERIC; VHDLIB_SIM: GENERIC_LIB; Published: 29-Jan-2004; Publisher: Altium Limited; LastRevisionNo: 1.00.00; HelpURL: CR0118 FPGA Generic Library Guide.pdf#page=383; ComponentLink1URL: CR0137 FPGA Multiplexer Resource Usage.pdf#page=110; ComponentLink1Description: Core &Resource Usage; FunctionalClass: Multiplexer
pins: A0 (in), A1 (in), B0 (in), B1 (in), C0 (in), C1 (in), D0 (in), D1 (in), E0 (in), E1 (in), EI (in), F0 (in), F1 (in), G0 (in), G1 (in), H0 (in), H1 (in), S0 (in), S1 (in), S2 (in), Y0 (out), Y1 (out)

## M2_S8S1E_SB
designator U?
8x2-Single Wire to 1x2-Single Wire Multiplexer With Enable With Bus Version Select; SubClass: SnS1; Enable: High; BusBusSelect: True; PortSize: 2; PortStyle: Single Pin Version; ArchiveName: GENERIC; VHDLIB_SIM: GENERIC_LIB; Published: 31-May-2004; Publisher: Altium Limited; LastRevisionNo: 1.00.00; HelpURL: CR0118 FPGA Generic Library Guide.pdf#page=383; ComponentLink1URL: CR0137 FPGA Multiplexer Resource Usage.pdf#page=111; ComponentLink1Description: Core &Resource Usage; FunctionalClass: Multiplexer
pins: A0 (in), A1 (in), B0 (in), B1 (in), C0 (in), C1 (in), D0 (in), D1 (in), E0 (in), E1 (in), EI (in), F0 (in), F1 (in), G0 (in), G1 (in), H0 (in), H1 (in), S[2..0] (in), Y0 (out), Y1 (out)

## M3_B1B2
designator U?
1x3-Bit Bus to 2x3-Bit Bus Multiplexer (Demultiplex); SubClass: B1Bn; PortSize: 3; PortStyle: Bus Version; ArchiveName: GENERIC; VHDLIB_SIM: GENERIC_LIB; Published: 29-Jan-2004; Publisher: Altium Limited; LastRevisionNo: 1.00.00; HelpURL: CR0118 FPGA Generic Library Guide.pdf#page=328; ComponentLink1URL: CR0137 FPGA Multiplexer Resource Usage.pdf#page=112; ComponentLink1Description: Core &Resource Usage; FunctionalClass: Multiplexer
pins: A[2..0] (out), B[2..0] (out), S0 (in), Y[2..0] (in)

## M3_B1B2E
designator U?
1x3-Bit Bus to 2x3-Bit Bus Multiplexer (Demultiplex) With Enable; SubClass: B1Bn; Enable: High; PortSize: 3; PortStyle: Bus Version; ArchiveName: GENERIC; VHDLIB_SIM: GENERIC_LIB; Published: 29-Jan-2004; Publisher: Altium Limited; LastRevisionNo: 1.00.00; HelpURL: CR0118 FPGA Generic Library Guide.pdf#page=331; ComponentLink1URL: CR0137 FPGA Multiplexer Resource Usage.pdf#page=113; ComponentLink1Description: Core &Resource Usage; FunctionalClass: Multiplexer
pins: A[2..0] (out), B[2..0] (out), EI (in), S0 (in), Y[2..0] (in)

## M3_B1B4
designator U?
1x3-Bit Bus to 4x3-Bit Bus Multiplexer (Demultiplex); SubClass: B1Bn; PortSize: 3; PortStyle: Bus Version; ArchiveName: GENERIC; VHDLIB_SIM: GENERIC_LIB; Published: 29-Jan-2004; Publisher: Altium Limited; LastRevisionNo: 1.00.00; HelpURL: CR0118 FPGA Generic Library Guide.pdf#page=335; ComponentLink1URL: CR0137 FPGA Multiplexer Resource Usage.pdf#page=114; ComponentLink1Description: Core &Resource Usage; FunctionalClass: Multiplexer
pins: A[2..0] (out), B[2..0] (out), C[2..0] (out), D[2..0] (out), S0 (in), S1 (in), Y[2..0] (in)

## M3_B1B4_SB
designator U?
1x3-Bit Bus to 4x3-Bit Bus Multiplexer (Demultiplex) With Bus Version Select; SubClass: B1Bn; BusBusSelect: True; PortSize: 3; ArchiveName: GENERIC; VHDLIB_SIM: GENERIC_LIB; Published: 31-May-2004; Publisher: Altium Limited; LastRevisionNo: 1.00.00; HelpURL: CR0118 FPGA Generic Library Guide.pdf#page=335; ComponentLink1URL: CR0137 FPGA Multiplexer Resource Usage.pdf#page=115; ComponentLink1Description: Core &Resource Usage; FunctionalClass: Multiplexer; PortStyle: Bus Version
pins: A[2..0] (out), B[2..0] (out), C[2..0] (out), D[2..0] (out), S[1..0] (in), Y[2..0] (in)

## M3_B1B4E
designator U?
1x3-Bit Bus to 4x3-Bit Bus Multiplexer (Demultiplex) With Enable; SubClass: B1Bn; Enable: High; PortSize: 3; PortStyle: Bus Version; ArchiveName: GENERIC; VHDLIB_SIM: GENERIC_LIB; Published: 29-Jan-2004; Publisher: Altium Limited; LastRevisionNo: 1.00.00; HelpURL: CR0118 FPGA Generic Library Guide.pdf#page=339; ComponentLink1URL: CR0137 FPGA Multiplexer Resource Usage.pdf#page=116; ComponentLink1Description: Core &Resource Usage; FunctionalClass: Multiplexer
pins: A[2..0] (out), B[2..0] (out), C[2..0] (out), D[2..0] (out), EI (in), S0 (in), S1 (in), Y[2..0] (in)

## M3_B1B4E_SB
designator U?
1x3-Bit Bus to 4x3-Bit Bus Multiplexer (Demultiplex) With Enable With Bus Version Select; SubClass: B1Bn; Enable: High; BusBusSelect: True; PortSize: 3; ArchiveName: GENERIC; VHDLIB_SIM: GENERIC_LIB; Published: 31-May-2004; Publisher: Altium Limited; LastRevisionNo: 1.00.00; HelpURL: CR0118 FPGA Generic Library Guide.pdf#page=339; ComponentLink1URL: CR0137 FPGA Multiplexer Resource Usage.pdf#page=117; ComponentLink1Description: Core &Resource Usage; FunctionalClass: Multiplexer; PortStyle: Bus Version
pins: A[2..0] (out), B[2..0] (out), C[2..0] (out), D[2..0] (out), EI (in), S[1..0] (in), Y[2..0] (in)

## M3_B1B8
designator U?
1x3-Bit Bus to 8x3-Bit Bus Multiplexer (Demultiplex); SubClass: B1Bn; PortSize: 3; PortStyle: Bus Version; ArchiveName: GENERIC; VHDLIB_SIM: GENERIC_LIB; Published: 29-Jan-2004; Publisher: Altium Limited; LastRevisionNo: 1.00.00; HelpURL: CR0118 FPGA Generic Library Guide.pdf#page=345; ComponentLink1URL: CR0137 FPGA Multiplexer Resource Usage.pdf#page=118; ComponentLink1Description: Core &Resource Usage; FunctionalClass: Multiplexer
pins: A[2..0] (out), B[2..0] (out), C[2..0] (out), D[2..0] (out), E[2..0] (out), F[2..0] (out), G[2..0] (out), H[2..0] (out), S0 (in), S1 (in), S2 (in), Y[2..0] (in)

## M3_B1B8_SB
designator U?
1x3-Bit Bus to 8x3-Bit Bus Multiplexer (Demultiplex) With Bus Version Select; SubClass: B1Bn; BusBusSelect: True; PortSize: 3; ArchiveName: GENERIC; VHDLIB_SIM: GENERIC_LIB; Published: 31-May-2004; Publisher: Altium Limited; LastRevisionNo: 1.00.00; HelpURL: CR0118 FPGA Generic Library Guide.pdf#page=345; ComponentLink1URL: CR0137 FPGA Multiplexer Resource Usage.pdf#page=119; ComponentLink1Description: Core &Resource Usage; FunctionalClass: Multiplexer; PortStyle: Bus Version
pins: A[2..0] (out), B[2..0] (out), C[2..0] (out), D[2..0] (out), E[2..0] (out), F[2..0] (out), G[2..0] (out), H[2..0] (out), S[2..0] (in), Y[2..0] (in)

## M3_B1B8E
designator U?
1x3-Bit Bus to 8x3-Bit Bus Multiplexer (Demultiplex) With Enable; SubClass: B1Bn; Enable: High; PortSize: 3; PortStyle: Bus Version; ArchiveName: GENERIC; VHDLIB_SIM: GENERIC_LIB; Published: 29-Jan-2004; Publisher: Altium Limited; LastRevisionNo: 1.00.00; HelpURL: CR0118 FPGA Generic Library Guide.pdf#page=350; ComponentLink1URL: CR0137 FPGA Multiplexer Resource Usage.pdf#page=120; ComponentLink1Description: Core &Resource Usage; FunctionalClass: Multiplexer
pins: A[2..0] (out), B[2..0] (out), C[2..0] (out), D[2..0] (out), E[2..0] (out), EI (in), F[2..0] (out), G[2..0] (out), H[2..0] (out), S0 (in), S1 (in), S2 (in), Y[2..0] (in)

## M3_B1B8E_SB
designator U?
1x3-Bit Bus to 8x3-Bit Bus Multiplexer (Demultiplex) With Enable With Bus Version Select; SubClass: B1Bn; Enable: High; BusBusSelect: True; PortSize: 3; ArchiveName: GENERIC; VHDLIB_SIM: GENERIC_LIB; Published: 31-May-2004; Publisher: Altium Limited; LastRevisionNo: 1.00.00; HelpURL: CR0118 FPGA Generic Library Guide.pdf#page=350; ComponentLink1URL: CR0137 FPGA Multiplexer Resource Usage.pdf#page=121; ComponentLink1Description: Core &Resource Usage; FunctionalClass: Multiplexer; PortStyle: Bus Version
pins: A[2..0] (out), B[2..0] (out), C[2..0] (out), D[2..0] (out), E[2..0] (out), EI (in), F[2..0] (out), G[2..0] (out), H[2..0] (out), S[2..0] (in), Y[2..0] (in)

## M3_B1B16
designator U?
1x3-Bit Bus to 16x3-Bit Bus Multiplexer (Demultiplex); SubClass: B1Bn; PortSize: 3; PortStyle: Bus Version; ArchiveName: GENERIC; VHDLIB_SIM: GENERIC_LIB; Published: 29-Jan-2004; Publisher: Altium Limited; LastRevisionNo: 1.00.00; HelpURL: CR0118 FPGA Generic Library Guide.pdf#page=355; ComponentLink1URL: CR0137 FPGA Multiplexer Resource Usage.pdf#page=122; ComponentLink1Description: Core &Resource Usage; FunctionalClass: Multiplexer
pins: A[2..0] (out), B[2..0] (out), C[2..0] (out), D[2..0] (out), E[2..0] (out), F[2..0] (out), G[2..0] (out), H[2..0] (out), I[2..0] (out), J[2..0] (out), K[2..0] (out), L[2..0] (out), M[2..0] (out), N[2..0] (out), O[2..0] (out), P[2..0] (out), S0 (in), S1 (in), S2 (in), S3 (in), Y[2..0] (in)

## M3_B1B16_SB
designator U?
1x3-Bit Bus to 16x3-Bit Bus Multiplexer (Demultiplex) With Bus Version Select; SubClass: B1Bn; BusBusSelect: True; PortSize: 3; ArchiveName: GENERIC; VHDLIB_SIM: GENERIC_LIB; Published: 29-Jan-2004; Publisher: Altium Limited; LastRevisionNo: 1.00.00; HelpURL: CR0118 FPGA Generic Library Guide.pdf#page=355; ComponentLink1URL: CR0137 FPGA Multiplexer Resource Usage.pdf#page=123; ComponentLink1Description: Core &Resource Usage; FunctionalClass: Multiplexer; PortStyle: Bus Version
pins: A[2..0] (out), B[2..0] (out), C[2..0] (out), D[2..0] (out), E[2..0] (out), F[2..0] (out), G[2..0] (out), H[2..0] (out), I[2..0] (out), J[2..0] (out), K[2..0] (out), L[2..0] (out), M[2..0] (out), N[2..0] (out), O[2..0] (out), P[2..0] (out), S[3..0] (in), Y[2..0] (in)

## M3_B1B16E
designator U?
1x3-Bit Bus to 16x3-Bit Bus Multiplexer (Demultiplex) With Enable; SubClass: B1Bn; Enable: High; PortSize: 3; PortStyle: Bus Version; ArchiveName: GENERIC; VHDLIB_SIM: GENERIC_LIB; Published: 29-Jan-2004; Publisher: Altium Limited; LastRevisionNo: 1.00.00; HelpURL: CR0118 FPGA Generic Library Guide.pdf#page=360; ComponentLink1URL: CR0137 FPGA Multiplexer Resource Usage.pdf#page=124; ComponentLink1Description: Core &Resource Usage; FunctionalClass: Multiplexer
pins: A[2..0] (out), B[2..0] (out), C[2..0] (out), D[2..0] (out), E[2..0] (out), EI (in), F[2..0] (out), G[2..0] (out), H[2..0] (out), I[2..0] (out), J[2..0] (out), K[2..0] (out), L[2..0] (out), M[2..0] (out), N[2..0] (out), O[2..0] (out), P[2..0] (out), S0 (in), S1 (in), S2 (in), S3 (in), Y[2..0] (in)

## M3_B1B16E_SB
designator U?
1x3-Bit Bus to 16x3-Bit Bus Multiplexer (Demultiplex) With Enable and Bus Version Select; SubClass: B1Bn; Enable: High; BusBusSelect: True; PortSize: 3; ArchiveName: GENERIC; VHDLIB_SIM: GENERIC_LIB; Published: 29-Jan-2004; Publisher: Altium Limited; LastRevisionNo: 1.00.00; HelpURL: CR0118 FPGA Generic Library Guide.pdf#page=355; ComponentLink1URL: CR0137 FPGA Multiplexer Resource Usage.pdf#page=125; ComponentLink1Description: Core &Resource Usage; FunctionalClass: Multiplexer; PortStyle: Bus Version
pins: A[2..0] (out), B[2..0] (out), C[2..0] (out), D[2..0] (out), E[2..0] (out), EI (in), F[2..0] (out), G[2..0] (out), H[2..0] (out), I[2..0] (out), J[2..0] (out), K[2..0] (out), L[2..0] (out), M[2..0] (out), N[2..0] (out), O[2..0] (out), P[2..0] (out), S[3..0] (in), Y[2..0] (in)

## M3_B2B1
designator U?
2x3-Bit Bus to 1x3-Bit Bus Multiplexer; SubClass: BnB1; PortSize: 3; ArchiveName: GENERIC; VHDLIB_SIM: GENERIC_LIB; Published: 29-Jan-2004; Publisher: Altium Limited; LastRevisionNo: 1.00.00; HelpURL: CR0118 FPGA Generic Library Guide.pdf#page=366; ComponentLink1URL: CR0137 FPGA Multiplexer Resource Usage.pdf#page=126; ComponentLink1Description: Core &Resource Usage; FunctionalClass: Multiplexer
pins: A[2..0] (in), B[2..0] (in), S0 (in), Y[2..0] (out)

## M3_B2B1E
designator U?
2x3-Bit Bus to 1x3-Bit Bus Multiplexer With Enable; SubClass: BnB1; Enable: High; PortSize: 3; ArchiveName: GENERIC; VHDLIB_SIM: GENERIC_LIB; Published: 29-Jan-2004; Publisher: Altium Limited; LastRevisionNo: 1.00.00; HelpURL: CR0118 FPGA Generic Library Guide.pdf#page=366; ComponentLink1URL: CR0137 FPGA Multiplexer Resource Usage.pdf#page=127; ComponentLink1Description: Core &Resource Usage; FunctionalClass: Multiplexer
pins: A[2..0] (in), B[2..0] (in), EI (in), S0 (in), Y[2..0] (out)

## M3_B4B1
designator U?
4x3-Bit Bus to 1x3-Bit Bus Multiplexer; SubClass: BnB1; PortSize: 3; ArchiveName: GENERIC; VHDLIB_SIM: GENERIC_LIB; Published: 29-Jan-2004; Publisher: Altium Limited; LastRevisionNo: 1.00.00; HelpURL: CR0118 FPGA Generic Library Guide.pdf#page=374; ComponentLink1URL: CR0137 FPGA Multiplexer Resource Usage.pdf#page=128; ComponentLink1Description: Core &Resource Usage; FunctionalClass: Multiplexer
pins: A[2..0] (in), B[2..0] (in), C[2..0] (in), D[2..0] (in), S0 (in), S1 (in), Y[2..0] (out)

## M3_B4B1_SB
designator U?
4x3-Bit Bus to 1x3-Bit Bus Multiplexer With Bus Version Select; SubClass: BnB1; BusBusSelect: True; PortSize: 3; ArchiveName: GENERIC; VHDLIB_SIM: GENERIC_LIB; Published: 31-May-2004; Publisher: Altium Limited; LastRevisionNo: 1.00.00; HelpURL: CR0118 FPGA Generic Library Guide.pdf#page=370; ComponentLink1URL: CR0137 FPGA Multiplexer Resource Usage.pdf#page=129; ComponentLink1Description: Core &Resource Usage; FunctionalClass: Multiplexer
pins: A[2..0] (in), B[2..0] (in), C[2..0] (in), D[2..0] (in), S[1..0] (in), Y[2..0] (out)

## M3_B4B1E
designator U?
4x3-Bit Bus to 1x3-Bit Bus Multiplexer With Enable; SubClass: BnB1; Enable: High; PortSize: 3; ArchiveName: GENERIC; VHDLIB_SIM: GENERIC_LIB; Published: 29-Jan-2004; Publisher: Altium Limited; LastRevisionNo: 1.00.00; HelpURL: CR0118 FPGA Generic Library Guide.pdf#page=374; ComponentLink1URL: CR0137 FPGA Multiplexer Resource Usage.pdf#page=130; ComponentLink1Description: Core &Resource Usage; FunctionalClass: Multiplexer
pins: A[2..0] (in), B[2..0] (in), C[2..0] (in), D[2..0] (in), EI (in), S0 (in), S1 (in), Y[2..0] (out)

## M3_B4B1E_SB
designator U?
4x3-Bit Bus to 1x3-Bit Bus Multiplexer With Enable With Bus Version Select; SubClass: BnB1; Enable: High; BusBusSelect: True; PortSize: 3; ArchiveName: GENERIC; VHDLIB_SIM: GENERIC_LIB; Published: 31-May-2004; Publisher: Altium Limited; LastRevisionNo: 1.00.00; HelpURL: CR0118 FPGA Generic Library Guide.pdf#page=374; ComponentLink1URL: CR0137 FPGA Multiplexer Resource Usage.pdf#page=131; ComponentLink1Description: Core &Resource Usage; FunctionalClass: Multiplexer
pins: A[2..0] (in), B[2..0] (in), C[2..0] (in), D[2..0] (in), EI (in), S[1..0] (in), Y[2..0] (out)

## M3_B8B1
designator U?
8x3-Bit Bus to 1x3-Bit Bus Multiplexer; SubClass: BnB1; PortSize: 3; ArchiveName: GENERIC; VHDLIB_SIM: GENERIC_LIB; Published: 29-Jan-2004; Publisher: Altium Limited; LastRevisionNo: 1.00.00; HelpURL: CR0118 FPGA Generic Library Guide.pdf#page=383; ComponentLink1URL: CR0137 FPGA Multiplexer Resource Usage.pdf#page=132; ComponentLink1Description: Core &Resource Usage; FunctionalClass: Multiplexer
pins: A[2..0] (in), B[2..0] (in), C[2..0] (in), D[2..0] (in), E[2..0] (in), F[2..0] (in), G[2..0] (in), H[2..0] (in), S0 (in), S1 (in), S2 (in), Y[2..0] (out)

## M3_B8B1_SB
designator U?
8x3-Bit Bus to 1x3-Bit Bus Multiplexer With Bus Version Select; SubClass: BnB1; BusBusSelect: True; PortSize: 3; ArchiveName: GENERIC; VHDLIB_SIM: GENERIC_LIB; Published: 31-May-2004; Publisher: Altium Limited; LastRevisionNo: 1.00.00; HelpURL: CR0118 FPGA Generic Library Guide.pdf#page=379; ComponentLink1URL: CR0137 FPGA Multiplexer Resource Usage.pdf#page=133; ComponentLink1Description: Core &Resource Usage; FunctionalClass: Multiplexer
pins: A[2..0] (in), B[2..0] (in), C[2..0] (in), D[2..0] (in), E[2..0] (in), F[2..0] (in), G[2..0] (in), H[2..0] (in), S[2..0] (in), Y[2..0] (out)

## M3_B8B1E
designator U?
8x3-Bit Bus to 1x3-Bit Bus Multiplexer With Enable; SubClass: BnB1; Enable: High; PortSize: 3; ArchiveName: GENERIC; VHDLIB_SIM: GENERIC_LIB; Published: 29-Jan-2004; Publisher: Altium Limited; LastRevisionNo: 1.00.00; HelpURL: CR0118 FPGA Generic Library Guide.pdf#page=383; ComponentLink1URL: CR0137 FPGA Multiplexer Resource Usage.pdf#page=134; ComponentLink1Description: Core &Resource Usage; FunctionalClass: Multiplexer
pins: A[2..0] (in), B[2..0] (in), C[2..0] (in), D[2..0] (in), E[2..0] (in), EI (in), F[2..0] (in), G[2..0] (in), H[2..0] (in), S0 (in), S1 (in), S2 (in), Y[2..0] (out)

## M3_B8B1E_SB
designator U?
8x3-Bit Bus to 1x3-Bit Bus Multiplexer With Enable With Bus Version Select; SubClass: BnB1; Enable: High; BusBusSelect: True; PortSize: 3; ArchiveName: GENERIC; VHDLIB_SIM: GENERIC_LIB; Published: 31-May-2004; Publisher: Altium Limited; LastRevisionNo: 1.00.00; HelpURL: CR0118 FPGA Generic Library Guide.pdf#page=383; ComponentLink1URL: CR0137 FPGA Multiplexer Resource Usage.pdf#page=135; ComponentLink1Description: Core &Resource Usage; FunctionalClass: Multiplexer
pins: A[2..0] (in), B[2..0] (in), C[2..0] (in), D[2..0] (in), E[2..0] (in), EI (in), F[2..0] (in), G[2..0] (in), H[2..0] (in), S[2..0] (in), Y[2..0] (out)

## M3_B16B1
designator U?
16x3-Bit Bus to 1x3-Bit Bus Multiplexer; SubClass: BnB1; PortSize: 3; ArchiveName: GENERIC; VHDLIB_SIM: GENERIC_LIB; Published: 29-Jan-2004; Publisher: Altium Limited; LastRevisionNo: 1.00.00; HelpURL: CR0118 FPGA Generic Library Guide.pdf#page=388; ComponentLink1URL: CR0137 FPGA Multiplexer Resource Usage.pdf#page=136; ComponentLink1Description: Core &Resource Usage; FunctionalClass: Multiplexer
pins: A[2..0] (in), B[2..0] (in), C[2..0] (in), D[2..0] (in), E[2..0] (in), F[2..0] (in), G[2..0] (in), H[2..0] (in), I[2..0] (in), J[2..0] (in), K[2..0] (in), L[2..0] (in), M[2..0] (in), N[2..0] (in), O[2..0] (in), P[2..0] (in), S0 (in), S1 (in), S2 (in), S3 (in), Y[2..0] (out)

## M3_B16B1_SB
designator U?
16x3-Bit Bus to 1x3-Bit Bus Multiplexer With Bus Version Select; SubClass: BnB1; BusBusSelect: True; PortSize: 3; ArchiveName: GENERIC; VHDLIB_SIM: GENERIC_LIB; Published: 29-Jan-2004; Publisher: Altium Limited; LastRevisionNo: 1.00.00; HelpURL: CR0118 FPGA Generic Library Guide.pdf#page=388; ComponentLink1URL: CR0137 FPGA Multiplexer Resource Usage.pdf#page=137; ComponentLink1Description: Core &Resource Usage; FunctionalClass: Multiplexer
pins: A[2..0] (in), B[2..0] (in), C[2..0] (in), D[2..0] (in), E[2..0] (in), F[2..0] (in), G[2..0] (in), H[2..0] (in), I[2..0] (in), J[2..0] (in), K[2..0] (in), L[2..0] (in), M[2..0] (in), N[2..0] (in), O[2..0] (in), P[2..0] (in), S[3..0] (in), Y[2..0] (out)